# Altium schematic symbol library Schlib2.SchLib: 5 symbols
Pins are listed as number, name and electrical type; pins without a type are passive.

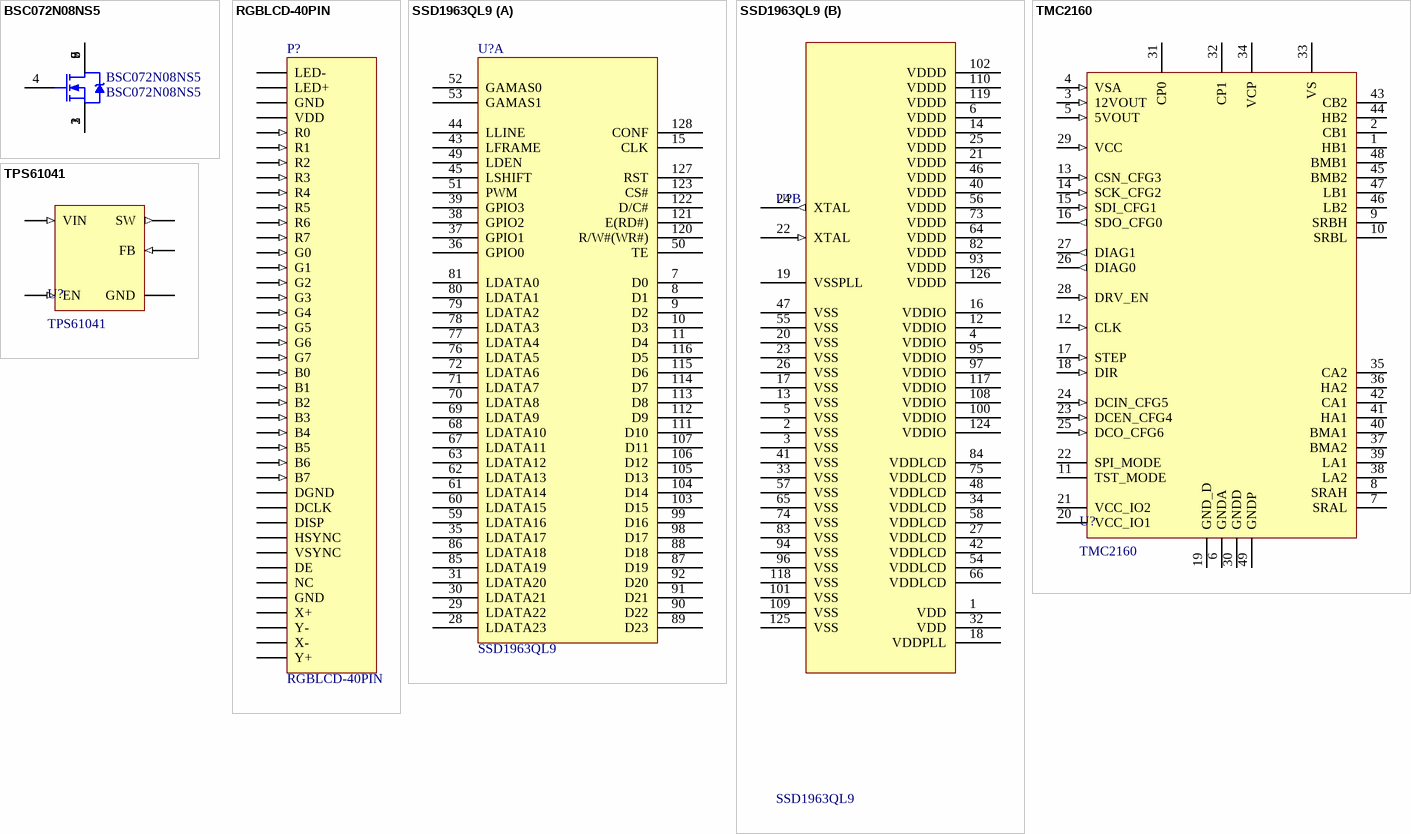
[diagram p0: symbols BSC072N08NS5 to TPS61041]

## BSC072N08NS5
designator BSC072N08NS5
Single N-Channel Logic Level PWM Optimized PowerTrenchTM MOSFET
footprint PG-TDSON-8 (SON, 8-Leads, Body 5.07x5.90mm, Pitch 1.27mm, Thermal Pad 4.15x3.87mm, IPC Medium Density)
pins: 1 S, 2 S, 3 S, 4 G, 5 D, 6 D, 7 D, 8 D, 9 D

## RGBLCD-40PIN
designator P?
footprint FPC-40
pins: 1 LED-, 2 LED+, 3 GND, 4 VDD, 5 R0 (in), 6 R1 (in), 7 R2 (in), 8 R3 (in), 9 R4 (in), 10 R5 (in), 11 R6 (in), 12 R7 (in), 13 G0 (in), 14 G1 (in), 15 G2 (in), 16 G3 (in), 17 G4 (in), 18 G5 (in), 19 G6 (in), 20 G7 (in), 21 B0 (in), 22 B1 (in), 23 B2 (in), 24 B3 (in), 25 B4 (in), 26 B5 (in), 27 B6 (in), 28 B7 (in), 29 DGND, 30 DCLK, 31 DISP, 32 HSYNC, 33 VSYNC, 34 DE, 35 NC, 36 GND, 37 X+, 38 Y-, 39 X-, 40 Y+

## SSD1963QL9
designator U?
footprint TQFP-128
part A pins: 7 D0, 8 D1, 9 D2, 10 D3, 11 D4, 15 CLK, 28 LDATA23, 29 LDATA22, 30 LDATA21, 31 LDATA20, 35 LDATA17, 36 GPIO0, 37 GPIO1, 38 GPIO2, 39 GPIO3, 43 LFRAME, 44 LLINE, 45 LSHIFT, 49 LDEN, 50 TE, 51 PWM, 52 GAMAS0, 53 GAMAS1, 59 LDATA16, 60 LDATA15, 61 LDATA14, 62 LDATA13, 63 LDATA12, 67 LDATA11, 68 LDATA10, 69 LDATA9, 70 LDATA8, 71 LDATA7, 72 LDATA6, 76 LDATA5, 77 LDATA4, 78 LDATA3, 79 LDATA2, 80 LDATA1, 81 LDATA0, 85 LDATA19, 86 LDATA18, 87 D19, 88 D18, 89 D23, 90 D22, 91 D21, 92 D20, 98 D17, 99 D16, 103 D15, 104 D14, 105 D13, 106 D12, 107 D11, 111 D10, 112 D9, 113 D8, 114 D7, 115 D6, 116 D5, 120 R/W#(WR#), 121 E(RD#), 122 D/C#, 123 CS#, 127 RST, 128 CONF
part B pins: 1 VDD, 2 VSS, 3 VSS, 4 VDDIO, 5 VSS, 6 VDDD, 12 VDDIO, 13 VSS, 14 VDDD, 16 VDDIO, 17 VSS, 18 VDDPLL, 19 VSSPLL, 20 VSS, 21 VDDD, 22 XTAL (in), 23 VSS, 24 XTAL (out), 25 VDDD, 26 VSS, 27 VDDLCD, 32 VDD, 33 VSS, 34 VDDLCD, 40 VDDD, 41 VSS, 42 VDDLCD, 46 VDDD, 47 VSS, 48 VDDLCD, 54 VDDLCD, 55 VSS, 56 VDDD, 57 VSS, 58 VDDLCD, 64 VDDD, 65 VSS, 66 VDDLCD, 73 VDDD, 74 VSS, 75 VDDLCD, 82 VDDD, 83 VSS, 84 VDDLCD, 93 VDDD, 94 VSS, 95 VDDIO, 96 VSS, 97 VDDIO, 100 VDDIO, 101 VSS, 102 VDDD, 108 VDDIO, 109 VSS, 110 VDDD, 117 VDDIO, 118 VSS, 119 VDDD, 124 VDDIO, 125 VSS, 126 VDDD

## TMC2160
designator U?
footprint TSQFP-48 (TSQFP, 48-Leads, Body 7.00x7.00mm, Pitch 0.50mm, Thermal Pad 5.10x5.10mm, IPC Medium Density)
pins: 1 HB1, 2 CB1, 3 12VOUT (in), 4 VSA (in), 5 5VOUT (in), 6 GNDA (power), 7 SRAL, 8 SRAH, 9 SRBH, 10 SRBL, 11 TST_MODE, 12 CLK (in), 13 CSN_CFG3 (in), 14 SCK_CFG2 (in), 15 SDI_CFG1 (in), 16 SDO_CFG0 (out), 17 STEP (in), 18 DIR (in), 19 GND_D (power), 20 VCC_IO1 (power), 21 VCC_IO2 (power), 22 SPI_MODE, 23 DCEN_CFG4 (in), 24 DCIN_CFG5 (in), 25 DCO_CFG6 (in), 26 DIAG0 (out), 27 DIAG1 (out), 28 DRV_EN (in), 29 VCC (in), 30 GNDD (power), 31 CP0 (power), 32 CP1 (power), 33 VS (power), 34 VCP (power), 35 CA2, 36 HA2, 37 BMA2, 38 LA2, 39 LA1, 40 BMA1, 41 HA1, 42 CA1, 43 CB2, 44 HB2, 45 BMB2, 46 LB2, 47 LB1, 48 BMB1, 49 GNDP (power)

## TPS61041
designator U?
footprint SOT-23-5
pins: 1 SW (out), 2 GND (power), 3 FB (in), 4 EN (in), 5 VIN (in)